# EAGLE library part MCP342* (library bschulz)
MCP342* - Sigma Delta ADC Characteristics: VCC: 2.7~5.5V Operating Temperature: -40°C to 125°C Number of Inputs: 1 (Differenital) Sample Rate: 15 Samples Per Second Number of Bits: 16 (MCP3425), 18 (MCP3421) Digikey: MCP3421 MCP3425A0T-E/CHCT-ND <https://www.digikey.com/product-detail/en/microchip-technology/MCP3425A0T-E-CH/MCP3425A0T-E-CHCT-ND/1979810> MCP3425 MCP3421A0T-E/CHCT-ND <https://www.digikey.com/product-detail/en/microchip-technology/MCP3421A0T-E-CH/MCP3421A0T-E-CHCT-ND/2183406> MCP3421A1T-E/CHCT-ND <https://www.digikey.com/product-detail/en/microchip-technology/MCP3421A1T-E-CH/MCP3421A1T-E-CHCT-ND/2183407> MCP3421A3T-E/CHCT-ND <https://www.digikey.com/product-detail/en/microchip-technology/MCP3421A3T-E-CH/MCP3421A3T-E-CHCT-ND/2183409>
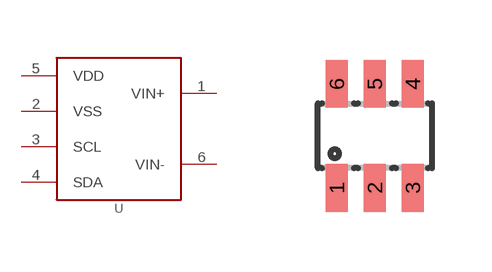
[diagram p24: symbol with the pads of SOT23-6L; footprint SOT23-6L]

Designator prefix U

## MCP342 (MF: Microchip), MCP3421A0 (DIGIKEY: MCP3421A0T-E/CHCT-ND; DISP: MCP3421; MF: Microchip; MPN: MCP3421A0T-E/CH), MCP3421A1 (DIGIKEY: MCP3421A1T-E/CHCT-ND; DISP: MCP3421; MF: Microchip; MPN: MCP3421A1T-E/CH), MCP3421A3 (DIGIKEY: MCP3421A3T-E/CHCT-ND; DISP: MCP3421; MF: Microchip; MPN: MCP3421A3T-E/CH), MCP3425 (DIGIKEY: MCP3425A0T-E/CHCT-ND; DISP: MCP3425; MF: Microchip; MPN: MCP3425A0T-E/CH)  [SOT23-6L]
1  VIN+  in
2  VSS  pas
3  SCL
4  SDA
5  VDD  pas
6  VIN-  in

## Footprint SOT23-6L (pad centres in mm)
Small Outline Transistor
smd 0.55 x 1.2: 1 -0.95,-1.3; 2 0,-1.3; 3 0.95,-1.3; 4 0.95,1.3; 5 0,1.3; 6 -0.95,1.3